# EAGLE library part 44 (library display-lcd-lxd)
4 Numerical Digit, .50" (12.70) Direct Drive Display Additional Descriptors: none
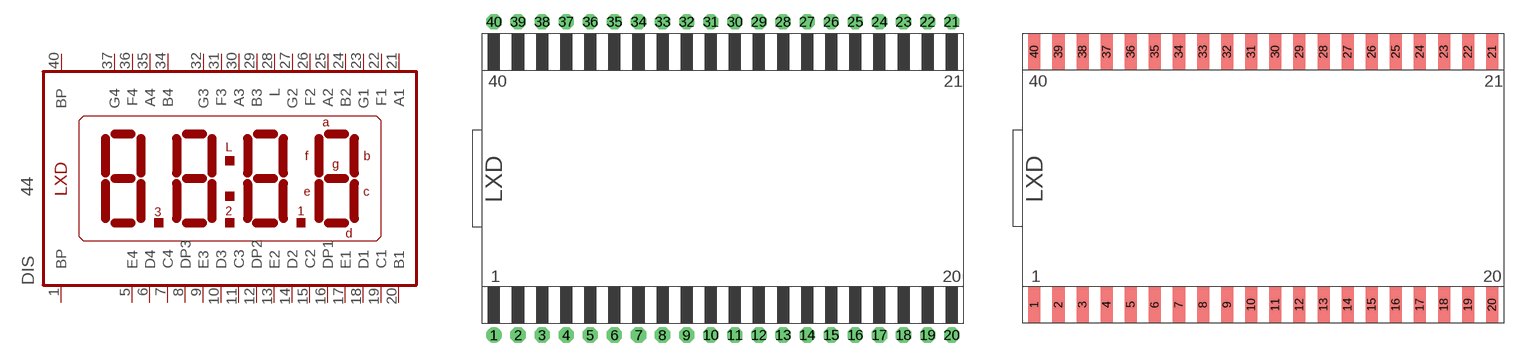
[diagram p22: symbol with the pads of 44-D; footprints 44-D, 44-E]

Designator prefix DIS

## 44DIP  [44-D]
1  BP  pas
5  E4  pas
6  D4  pas
7  C4  pas
8  DP3  pas
9  E3  pas
10  D3  pas
11  C3  pas
12  DP2  pas
13  E2  pas
14  D2  pas
15  C2  pas
16  DP1  pas
17  E1  pas
18  D1  pas
19  C1  pas
20  B1  pas
21  A1  pas
22  F1  pas
23  G1  pas
24  B2  pas
25  A2  pas
26  F2  pas
27  G2  pas
28  L  pas
29  B3  pas
30  A3  pas
31  F3  pas
32  G3  pas
34  B4  pas
35  A4  pas
36  F4  pas
37  G4  pas
40  BP  pas

## 44SMD  [44-E]
Pads as for 44-D

## Footprint 44-D (pad centres in mm)
Glass Size: 2.00" x 1.20" &nbsp &nbsp &nbsp &nbsp &nbsp &nbsp &nbsp &nbsp &nbsp (50.80 x 30.48)
drill 0.813 pad 1.6 round: 1 -24.13,-16.51
drill 0.813 pad 1.6 octagon: 2 -21.59,-16.51; 3 -19.05,-16.51; 4 -16.51,-16.51; 5 -13.97,-16.51; 6 -11.43,-16.51; 7 -8.89,-16.51; 8 -6.35,-16.51; 9 -3.81,-16.51; 10 -1.27,-16.51; 11 1.27,-16.51; 12 3.81,-16.51; 13 6.35,-16.51; 14 8.89,-16.51; 15 11.43,-16.51; 16 13.97,-16.51; 17 16.51,-16.51; 18 19.05,-16.51; 19 21.59,-16.51; 20 24.13,-16.51; 21 24.13,16.51; 22 21.59,16.51; 23 19.05,16.51; 24 16.51,16.51; 25 13.97,16.51; 26 11.43,16.51; 27 8.89,16.51; 28 6.35,16.51; 29 3.81,16.51; 30 1.27,16.51; 31 -1.27,16.51; 32 -3.81,16.51; 33 -6.35,16.51; 34 -8.89,16.51; 35 -11.43,16.51; 36 -13.97,16.51; 37 -16.51,16.51; 38 -19.05,16.51; 39 -21.59,16.51; 40 -24.13,16.51

## Footprint 44-E (pad centres in mm)
Glass Size: 2.00" x 1.20" &nbsp &nbsp &nbsp &nbsp &nbsp &nbsp &nbsp &nbsp &nbsp (50.80 x 30.48)
smd 1.27 x 3.81: 1 -24.13,-13.335; 2 -21.59,-13.335; 3 -19.05,-13.335; 4 -16.51,-13.335; 5 -13.97,-13.335; 6 -11.43,-13.335; 7 -8.89,-13.335; 8 -6.35,-13.335; 9 -3.81,-13.335; 10 -1.27,-13.335; 11 1.27,-13.335; 12 3.81,-13.335; 13 6.35,-13.335; 14 8.89,-13.335; 15 11.43,-13.335; 16 13.97,-13.335; 17 16.51,-13.335; 18 19.05,-13.335; 19 21.59,-13.335; 20 24.13,-13.335; 21 24.13,13.335; 22 21.59,13.335; 23 19.05,13.335; 24 16.51,13.335; 25 13.97,13.335; 26 11.43,13.335; 27 8.89,13.335; 28 6.35,13.335; 29 3.81,13.335; 30 1.27,13.335; 31 -1.27,13.335; 32 -3.81,13.335; 33 -6.35,13.335; 34 -8.89,13.335; 35 -11.43,13.335; 36 -13.97,13.335; 37 -16.51,13.335; 38 -19.05,13.335; 39 -21.59,13.335; 40 -24.13,13.335